# EAGLE library part 691311500110 (library Wuerth_Elektronik_eiCan_Terminal_Blocks_v2.0)
WR-TBL Serie 311 - 5.08 mm Close Vertical PCB Header , 10 Pins
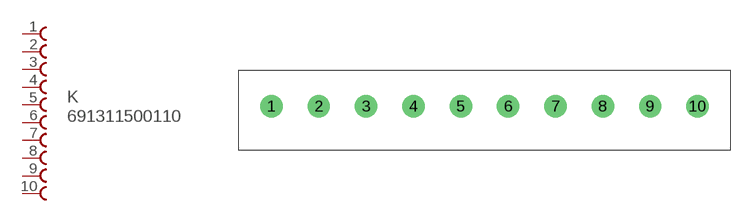
[diagram p76: symbol with the pads of 691311500110; footprint 691311500110]

Designator prefix K

## 691311500110  [691311500110]
1  1  pas
2  2  pas
3  3  pas
4  4  pas
5  5  pas
6  6  pas
7  7  pas
8  8  pas
9  9  pas
10  10  pas

## Footprint 691311500110 (pad centres in mm)
WR-TBL Serie 311 - 5.08 mm Close Vertical PCB Header , 10 Pins
drill 1.6 round: 1 -40.64,0; 2 -35.56,0; 3 -30.48,0; 4 -25.4,0; 5 -20.32,0; 6 -15.24,0; 7 -10.16,0; 8 -5.08,0; 9 0,0; 10 5.08,0